# Altium footprint library SOT_523_custom.PcbLib: 1 footprints
Each footprint in its own frame and in the unit in brackets; x right, y up, seen from the top. Pads: shape width x height; smd on the part's side, far side on the other; paste and mask are expansions set on the pad; w line width, h text height; cw(c..) or ccw(c..) is an arc to the next point about the centre after c.
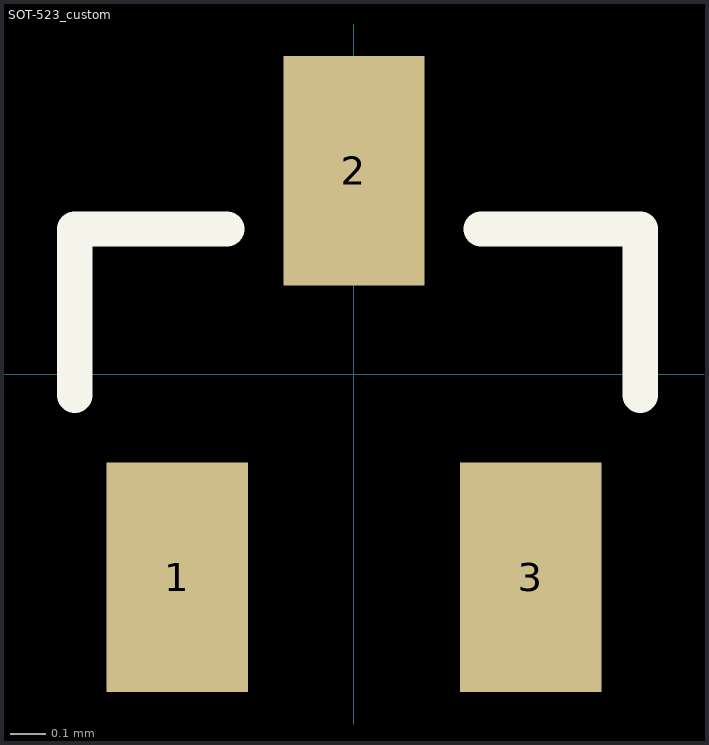
[diagram p0: the footprint, top view; thin cyan lines are the x and y axes]

## SOT-523_custom [mm]
pads (3):
  rect 0.4x0.65 smd: 1(-0.5,-0.575) 2(0,0.575) 3(0.5,-0.575)
Top Overlay:
  lines w0.1: -0.79,-0.06 -0.79,0.41 -0.36,0.41 ; 0.36,0.41 0.81,0.41 0.81,-0.06
3D body "User Library-SOT-523.step": height 0.8, standoff 0, extent -0.79,-0.81 0.81,0.79